# EAGLE library part MAX745 (library kwoo)
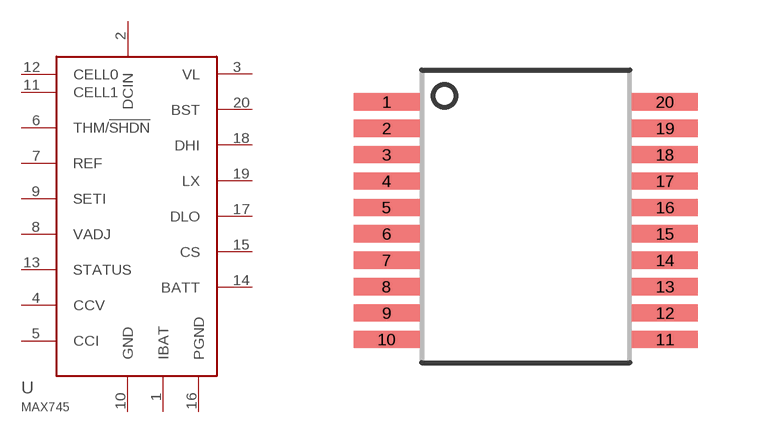
[diagram p1: symbol with the pads of 20-SSOP; footprint 20-SSOP]

Designator prefix -

## MAX745  [20-SSOP]
1  IBAT
2  DCIN  pwr
3  VL
4  CCV
5  CCI
6  THM/!SHDN
7  REF
8  VADJ
9  SETI
10  GND  pwr
11  CELL1
12  CELL0
13  STATUS
14  BATT
15  CS
16  PGND  pwr
17  DLO
18  DHI
19  LX
20  BST

## Footprint 20-SSOP (pad centres in mm)
smd 1.651 x 0.432: 1 -3.48,5.944; 2 -3.48,5.283; 3 -3.48,4.623; 4 -3.48,3.962; 5 -3.48,3.302; 6 -3.48,2.642; 7 -3.48,1.981; 8 -3.48,1.321; 9 -3.48,0.66; 10 -3.48,0; 11 3.48,0; 12 3.48,0.66; 13 3.48,1.321; 14 3.48,1.981; 15 3.48,2.642; 16 3.48,3.302; 17 3.48,3.962; 18 3.48,4.623; 19 3.48,5.283; 20 3.48,5.944